# Altium footprint library 7970.PcbLib: 1 footprints
Each footprint in its own frame and in the unit in brackets; x right, y up, seen from the top. Pads: shape width x height; smd on the part's side, far side on the other; paste and mask are expansions set on the pad; w line width, h text height; cw(c..) or ccw(c..) is an arc to the next point about the centre after c.
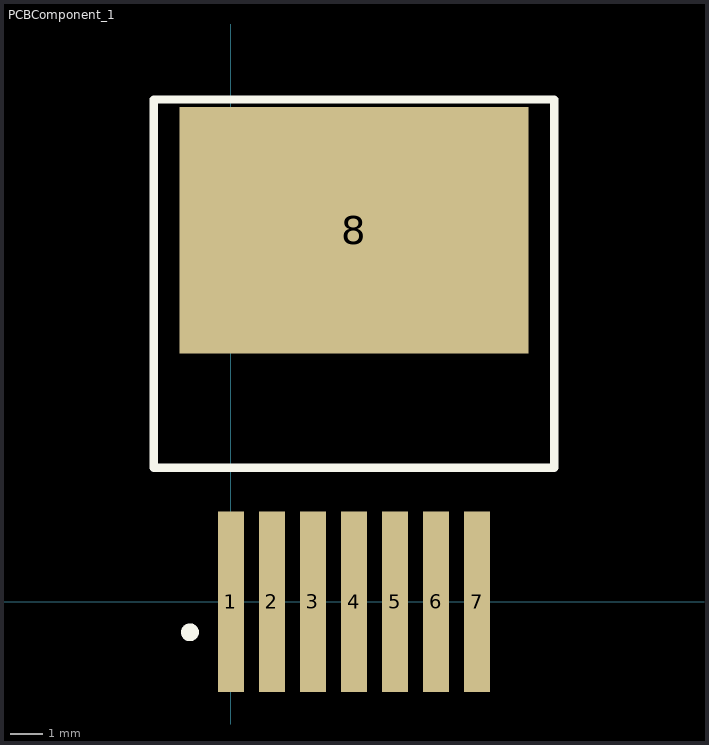
[diagram p0: the footprint, top view; thin cyan lines are the x and y axes]

## PCBComponent_1 [mm]
pads (8):
  rect 0.8x5.6 smd: 1(0,0) 2(1.27,0) 3(2.54,0) 4(3.81,0) 5(5.08,0) 6(6.35,0) 7(7.62,0)
  rect 10.8x7.62 smd: 8(3.81,11.501)
Top Overlay:
  circle w0.3: c-1.27,-0.945 r0.127
  lines w0.254: -2.39,4.15 -2.39,15.55 10.01,15.55 10.01,4.15 -2.39,4.15